# Altium schematic symbol library 模块.SchLib: 7 symbols
Pins are listed as number, name and electrical type; pins without a type are passive.

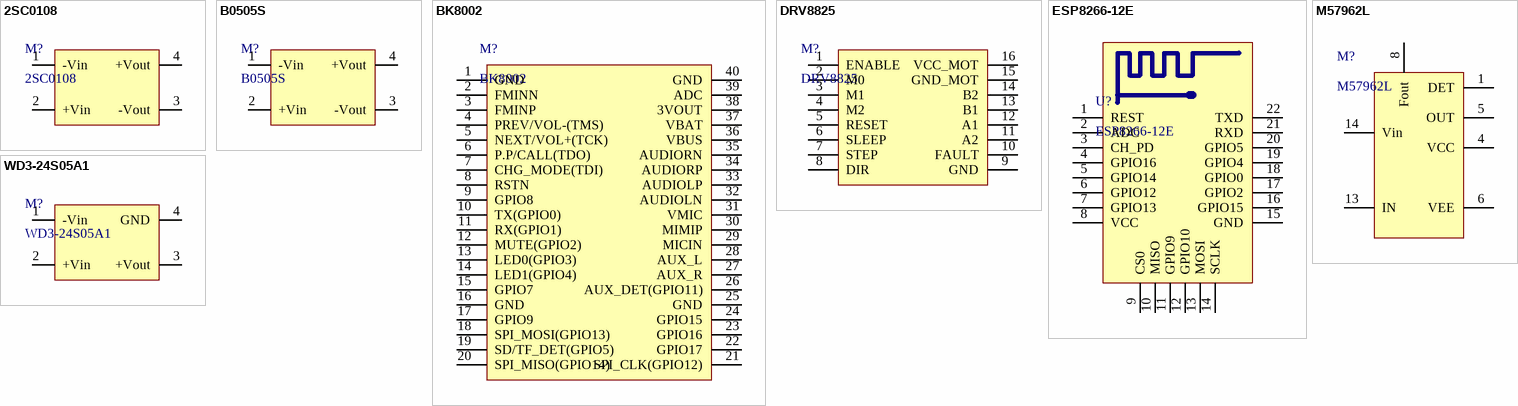
[diagram p0: symbols 2SC0108 to WD3-24S05A1]

## 2SC0108
designator M?
IGBT驱动模块; 版权归属: 源创客; BOM名称: IGBT驱动模块; 学习资源: www.ooocke.com
footprint 2SC0108 (45mm*34.29mm*16mm(长*宽*高))
pins: 1 -Vin, 2 +Vin, 3 -Vout, 4 +Vout

## B0505S
designator M?
DC-DC模块; 版权归属: 源创客; BOM名称: DC-DC模块; 学习资源: www.ooocke.com
footprint B0505S-2W-DIP (19.5mm*9.8mm*7.7mm(长*宽*高）)
footprint B0505S-2W-SIP (19.5mm*7.5mm*10mm(长*宽*高）)
footprint B0505S-1W (11.68mm*6mm*9.65mm(长*宽*高）)
pins: 1 -Vin, 2 +Vin, 3 -Vout, 4 +Vout

## BK8002
designator M?
蓝牙模块，带FM; BOM名称: 蓝牙立体声模块; 版权归属: 源创客; 学习资源: www.ooocke.com
footprint BK8002
pins: 1 GND, 2 FMINN, 3 FMINP, 4 PREV/VOL-(TMS), 5 NEXT/VOL+(TCK), 6 P.P/CALL(TDO), 7 CHG_MODE(TDI), 8 RSTN, 9 GPIO8, 10 TX(GPIO0), 11 RX(GPIO1), 12 MUTE(GPIO2), 13 LED0(GPIO3), 14 LED1(GPIO4), 15 GPIO7, 16 GND, 17 GPIO9, 18 SPI_MOSI(GPIO13), 19 SD/TF_DET(GPIO5), 20 SPI_MISO(GPIO14), 21 SPI_CLK(GPIO12), 22 GPIO17, 23 GPIO16, 24 GPIO15, 25 GND, 26 AUX_DET(GPIO11), 27 AUX_R, 28 AUX_L, 29 MICIN, 30 MIMIP, 31 VMIC, 32 AUDIOLN, 33 AUDIOLP, 34 AUDIORP, 35 AUDIORN, 36 VBUS, 37 VBAT, 38 3VOUT, 39 ADC, 40 GND

## DRV8825
designator M?
步进电机驱动模块; 版权归属: 源创客; BOM名称: 步进电机驱动模块; 学习资源: www.ooocke.com
footprint DRV8825 (长:20.5mm，宽:15.5mm，高:5mm)
pins: 1 ENABLE, 2 M0, 3 M1, 4 M2, 5 RESET, 6 SLEEP, 7 STEP, 8 DIR, 9 GND, 10 FAULT, 11 A2, 12 A1, 13 B1, 14 B2, 15 GND_MOT, 16 VCC_MOT

## ESP8266-12E
designator U?
串口 WIFI模块，ESP-12E; BOM名称: WIFI模块; 版权归属: 源创客; 学习资源: www.ooocke.com
footprint ESP_12E (ESP-12 Wi-Fi Module by AI-Thinker)
pins: 1 REST, 2 ADC, 3 CH_PD, 4 GPIO16, 5 GPIO14, 6 GPIO12, 7 GPIO13, 8 VCC, 9 CS0, 10 MISO, 11 GPIO9, 12 GPIO10, 13 MOSI, 14 SCLK, 15 GND, 16 GPIO15, 17 GPIO2, 18 GPIO0, 19 GPIO4, 20 GPIO5, 21 RXD, 22 TXD

## M57962L
designator M?
IGBT驱动; 版权归属: 源创客; BOM名称: IGBT驱动; 学习资源: www.ooocke.com
footprint M57962L (IGBT驱动模块)
pins: 1 DET, 4 VCC, 5 OUT, 6 VEE, 8 Fout, 13 IN, 14 Vin

## WD3-24S05A1
designator M?
24V转5V模块; 版权归属: 源创客; BOM名称: 24V转5V模块; 学习资源: www.ooocke.com
footprint WD-24S05A1 (3W-24V转5V模块)
pins: 1 -Vin, 2 +Vin, 3 +Vout, 4 GND